# Altium footprint library TE 4DB-P108-04.PCBLIB: 1 footprints
Each footprint in its own frame and in the unit in brackets; x right, y up, seen from the top. Pads: shape width x height; smd on the part's side, far side on the other; paste and mask are expansions set on the pad; w line width, h text height; cw(c..) or ccw(c..) is an arc to the next point about the centre after c.
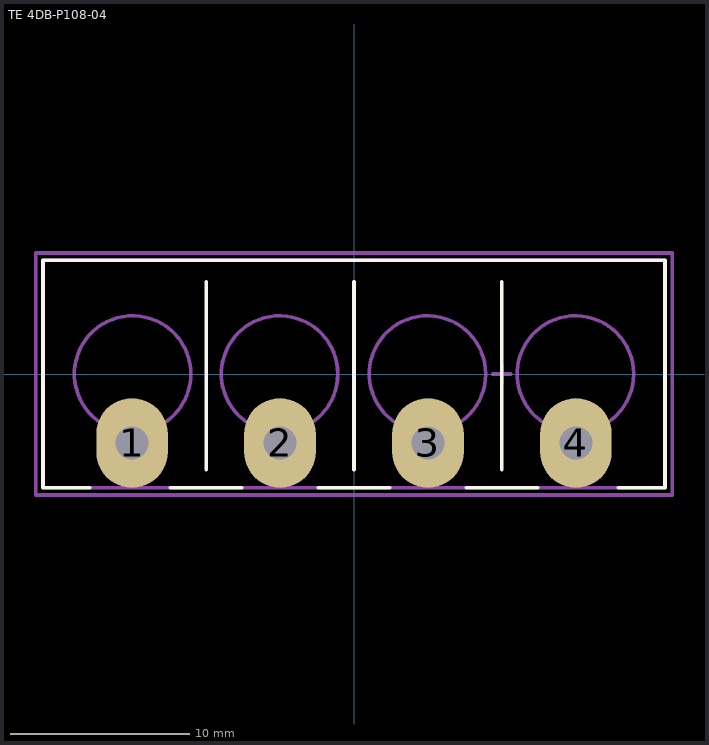
[diagram p0: the footprint, top view; thin cyan lines are the x and y axes]

## TE 4DB-P108-04 [mm] "Assembly, Dual Barrier 4DB P108"
height 13.5
pads (4):
  oval 4x5 hole 1.829: 1(-12.383,-3.85) 2(-4.127,-3.85) 3(4.127,-3.85) 4(12.383,-3.85)
Top Overlay:
  lines w0.2: -14.755,-6.35 -17.355,-6.35 -17.355,6.35 17.355,6.35 17.355,-6.35 14.755,-6.35 ; -10.255,-6.35 -6.255,-6.35 ; -8.255,-5.35 -8.255,5.15 ; -2,-6.35 2,-6.35 ; 0,-5.35 0,5.15 ; 6.255,-6.35 10.255,-6.35 ; 8.255,-5.35 8.255,5.15
Mechanical 1:
  circle w0.2: c-12.355,0 r3.25
  circle w0.2: c-4.155,0 r3.25
  circle w0.2: c4.1,0 r3.25
  circle w0.2: c12.355,0 r3.25
  lines w0.2: -17.336,-6.35 -17.336,6.35 17.336,6.35 17.336,-6.35 -17.336,-6.35
Mechanical 15:
  lines w0.2: 7.755,0 8.755,0 ; 8.255,-0.5 8.255,0.5 ; -17.755,-6.75 17.755,-6.75 17.755,6.75 -17.755,6.75 -17.755,-6.75
3D body "TE 4DB-P108-04.STEP": height 14.47, standoff -4.06, extent -17.336,-6.35 17.335,6.35